# Altium schematic symbol library TPS6122x.Schlib: 1 symbol
Pins are listed as number, name and electrical type; pins without a type are passive.

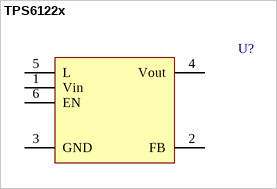
[diagram p0: symbol TPS6122x]

## TPS6122x
designator U?
pins: 1 Vin, 2 FB, 3 GND (power), 4 Vout, 5 L, 6 EN
1 alternate drawing of the same symbol